# Altium footprint library Logo.PcbLib: 45 footprints (part 2 of 3)
Each footprint in its own frame and in the unit in brackets; x right, y up, seen from the top. Pads: shape width x height; smd on the part's side, far side on the other; paste and mask are expansions set on the pad; w line width, h text height; cw(c..) or ccw(c..) is an arc to the next point about the centre after c.
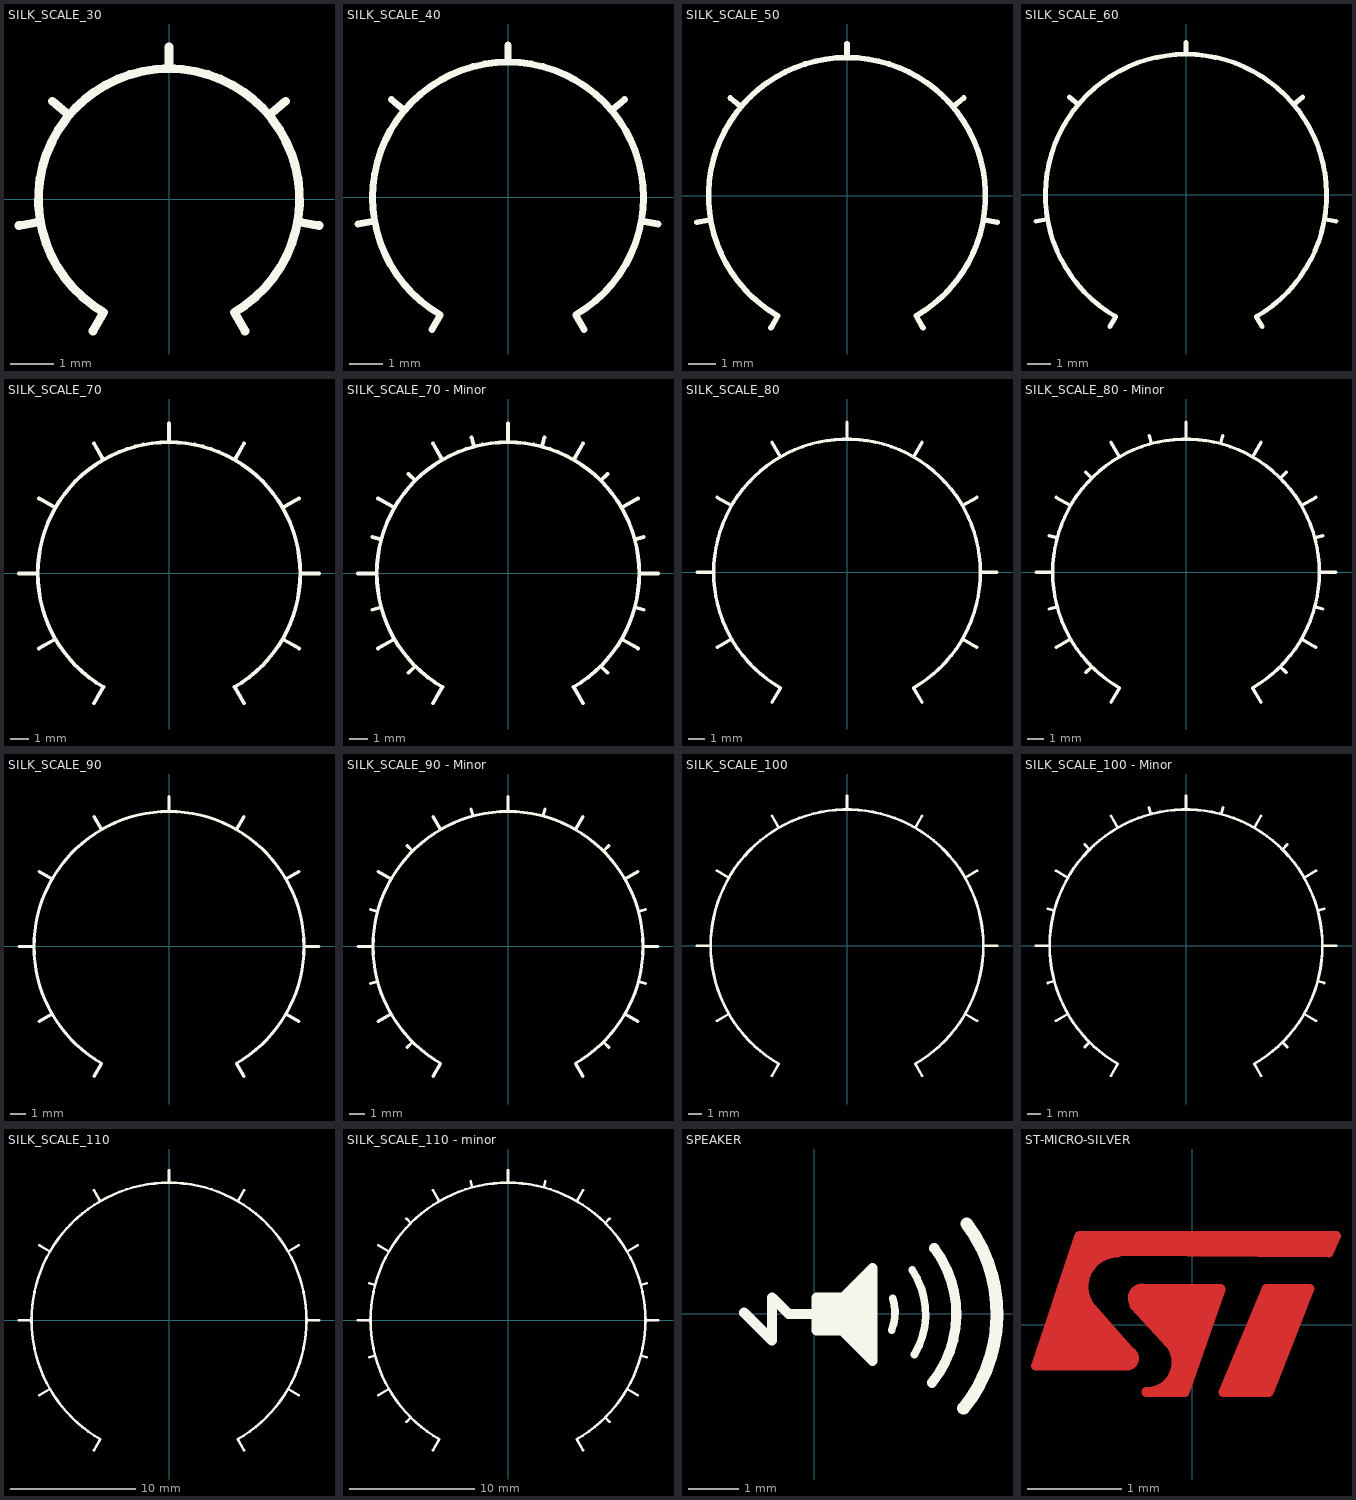
[diagram p1: the footprints below, top view; thin cyan lines are the x and y axes]

## SILK_SCALE_30 [mil]
Top Overlay:
  lines w8: -135.7,-23.93 -116.32,-20.51 ; -105.56,88.57 -90.48,75.92 ; -68.9,-119.33 -59.06,-102.29 cw(c0,0) 59.06,-102.29 68.9,-119.33 ; 0,118.11 0,137.8 ; 90.48,75.92 105.56,88.57 ; 116.32,-20.51 135.7,-23.93

## SILK_SCALE_40 [mil]
Top Overlay:
  lines w8: -174.47,-30.76 -155.09,-27.35 ; -135.72,113.88 -120.64,101.23 ; -88.58,-153.43 -78.74,-136.38 cw(c0,0) 78.74,-136.38 88.58,-153.43 ; 0,157.48 0,177.17 ; 120.64,101.23 135.72,113.88 ; 155.09,-27.35 174.47,-30.76

## SILK_SCALE_50 [mil]
Top Overlay:
  lines w8: -213.25,-37.6 -193.86,-34.18 ; -165.88,139.19 -150.8,126.53 ; -108.27,-187.53 -98.43,-170.48 cw(c0,0) 98.43,-170.48 108.27,-187.53 ; 0,196.85 0,216.54 ; 150.8,126.53 165.88,139.19 ; 193.86,-34.18 213.25,-37.6

## SILK_SCALE_60 [mil]
Top Overlay:
  lines w8: -252.02,-44.44 -232.63,-41.02 ; -196.03,164.49 -180.96,151.84 ; -127.95,-221.62 -118.11,-204.57 cw(c0,0) 118.11,-204.57 127.95,-221.62 ; 0,236.22 0,255.91 ; 180.96,151.84 196.03,164.49 ; 232.63,-41.02 252.02,-44.44

## SILK_SCALE_70 [mil]
Top Overlay:
  lines w8: -314.96,0 -275.59,0 ; -272.76,-157.48 -238.67,-137.8 ; -272.76,157.48 -238.67,137.8 ; -157.48,-272.76 -137.8,-238.67 cw(c0,0) 137.8,-238.67 157.48,-272.76 ; -157.48,272.76 -137.8,238.67 ; 0,275.59 0,314.96 ; 137.8,238.67 157.48,272.76 ; 238.67,-137.8 272.76,-157.48 ; 238.67,137.8 272.76,157.48 ; 275.59,0 314.96,0

## SILK_SCALE_70 - Minor [mil]
Top Overlay:
  lines w8: -314.96,0 -275.59,0 ; -285.21,-76.42 -266.2,-71.33 ; -285.21,76.42 -266.2,71.33 ; -272.76,-157.48 -238.67,-137.8 ; -272.76,157.48 -238.67,137.8 ; -208.79,-208.79 -194.87,-194.87 ; -208.79,208.79 -194.87,194.87 ; -157.48,-272.76 -137.8,-238.67 cw(c0,0) 137.8,-238.67 157.48,-272.76 ; -157.48,272.76 -137.8,238.67 ; -76.42,285.21 -71.33,266.2 ; 0,275.59 0,314.96 ; 71.33,266.2 76.42,285.21 ; 137.8,238.67 157.48,272.76 ; 194.87,-194.87 208.79,-208.79 ; 194.87,194.87 208.79,208.79 ; 238.67,-137.8 272.76,-157.48 ; 238.67,137.8 272.76,157.48 ; 266.2,-71.33 285.21,-76.42 ; 266.2,71.33 285.21,76.42 ; 275.59,0 314.96,0

## SILK_SCALE_80 [mil]
Top Overlay:
  lines w8: -354.33,0 -314.96,0 ; -306.86,-177.17 -272.76,-157.48 ; -306.86,177.17 -272.76,157.48 ; -177.17,-306.86 -157.48,-272.76 cw(c0,0) 157.48,-272.76 177.17,-306.86 ; -177.17,306.86 -157.48,272.76 ; 0,314.96 0,354.33 ; 157.48,272.76 177.17,306.86 ; 272.76,-157.48 306.86,-177.17 ; 272.76,157.48 306.86,177.17 ; 314.96,0 354.33,0

## SILK_SCALE_80 - Minor [mil]
Top Overlay:
  lines w8: -354.33,0 -314.96,0 ; -323.24,-86.61 -304.23,-81.52 ; -323.24,86.61 -304.23,81.52 ; -306.86,-177.17 -272.76,-157.48 ; -306.86,177.17 -272.76,157.48 ; -236.63,-236.63 -222.71,-222.71 ; -236.63,236.63 -222.71,222.71 ; -177.17,-306.86 -157.48,-272.76 cw(c0,0) 157.48,-272.76 177.17,-306.86 ; -177.17,306.86 -157.48,272.76 ; -86.61,323.24 -81.52,304.23 ; 0,314.96 0,354.33 ; 81.52,304.23 86.61,323.24 ; 157.48,272.76 177.17,306.86 ; 222.71,-222.71 236.63,-236.63 ; 222.71,222.71 236.63,236.63 ; 272.76,-157.48 306.86,-177.17 ; 272.76,157.48 306.86,177.17 ; 304.23,-81.52 323.24,-86.61 ; 304.23,81.52 323.24,86.61 ; 314.96,0 354.33,0

## SILK_SCALE_90 [mil]
Top Overlay:
  lines w8: -393.7,0 -354.33,0 ; -340.95,-196.85 -306.86,-177.17 ; -340.95,196.85 -306.86,177.17 ; -196.85,-340.95 -177.17,-306.86 cw(c0,0) 177.17,-306.86 196.85,-340.95 ; -196.85,340.95 -177.17,306.86 ; 0,354.33 0,393.7 ; 177.17,306.86 196.85,340.95 ; 306.86,-177.17 340.95,-196.85 ; 306.86,177.17 340.95,196.85 ; 354.33,0 393.7,0

## SILK_SCALE_90 - Minor [mil]
Top Overlay:
  lines w8: -393.7,0 -354.33,0 ; -361.27,-96.8 -342.26,-91.71 ; -361.27,96.8 -342.26,91.71 ; -340.95,-196.85 -306.86,-177.17 ; -340.95,196.85 -306.86,177.17 ; -264.47,-264.47 -250.55,-250.55 ; -264.47,264.47 -250.55,250.55 ; -196.85,-340.95 -177.17,-306.86 cw(c0,0) 177.17,-306.86 196.85,-340.95 ; -196.85,340.95 -177.17,306.86 ; -96.8,361.27 -91.71,342.26 ; 0,354.33 0,393.7 ; 91.71,342.26 96.8,361.27 ; 177.17,306.86 196.85,340.95 ; 250.55,-250.55 264.47,-264.47 ; 250.55,250.55 264.47,264.47 ; 306.86,-177.17 340.95,-196.85 ; 306.86,177.17 340.95,196.85 ; 342.26,-91.71 361.27,-96.8 ; 342.26,91.71 361.27,96.8 ; 354.33,0 393.7,0

## SILK_SCALE_100 [mil]
Top Overlay:
  lines w8: -433.07,0 -393.7,0 ; -375.05,-216.54 -340.95,-196.85 ; -375.05,216.54 -340.95,196.85 ; -216.54,-375.05 -196.85,-340.95 cw(c0,0) 196.85,-340.95 216.54,-375.05 ; -216.54,375.05 -196.85,340.95 ; 0,393.7 0,433.07 ; 196.85,340.95 216.54,375.05 ; 340.95,-196.85 375.05,-216.54 ; 340.95,196.85 375.05,216.54 ; 393.7,0 433.07,0

## SILK_SCALE_100 - Minor [mil]
Top Overlay:
  lines w8: -433.07,0 -393.7,0 ; -399.3,-106.99 -380.29,-101.9 ; -399.3,106.99 -380.29,101.9 ; -375.05,-216.54 -340.95,-196.85 ; -375.05,216.54 -340.95,196.85 ; -292.31,-292.31 -278.39,-278.39 ; -292.31,292.31 -278.39,278.39 ; -216.54,-375.05 -196.85,-340.95 cw(c0,0) 196.85,-340.95 216.54,-375.05 ; -216.54,375.05 -196.85,340.95 ; -106.99,399.3 -101.9,380.29 ; 0,393.7 0,433.07 ; 101.9,380.29 106.99,399.3 ; 196.85,340.95 216.54,375.05 ; 278.39,-278.39 292.31,-292.31 ; 278.39,278.39 292.31,292.31 ; 340.95,-196.85 375.05,-216.54 ; 340.95,196.85 375.05,216.54 ; 380.29,-101.9 399.3,-106.99 ; 380.29,101.9 399.3,106.99 ; 393.7,0 433.07,0

## SILK_SCALE_110 [mil]
Top Overlay:
  lines w8: -472.44,0 -433.07,0 ; -409.15,-236.22 -375.05,-216.54 ; -409.15,236.22 -375.05,216.54 ; -236.22,-409.15 -216.54,-375.05 cw(c0,0) 216.54,-375.05 236.22,-409.15 ; -236.22,409.15 -216.54,375.05 ; 0,433.07 0,472.44 ; 216.54,375.05 236.22,409.15 ; 375.05,-216.54 409.15,-236.22 ; 375.05,216.54 409.15,236.22 ; 433.07,0 472.44,0

## SILK_SCALE_110 - minor [mil]
Top Overlay:
  lines w8: -472.44,0 -433.07,0 ; -437.33,-117.18 -418.31,-112.09 ; -437.33,117.18 -418.31,112.09 ; -409.15,-236.22 -375.05,-216.54 ; -409.15,236.22 -375.05,216.54 ; -320.15,-320.15 -306.23,-306.23 ; -320.15,320.15 -306.23,306.23 ; -236.22,-409.15 -216.54,-375.05 cw(c0,0) 216.54,-375.05 236.22,-409.15 ; -236.22,409.15 -216.54,375.05 ; -117.18,437.33 -112.09,418.31 ; 0,433.07 0,472.44 ; 112.09,418.31 117.18,437.33 ; 216.54,375.05 236.22,409.15 ; 306.23,-306.23 320.15,-320.15 ; 306.23,306.23 320.15,320.15 ; 375.05,-216.54 409.15,-236.22 ; 375.05,216.54 409.15,236.22 ; 418.31,-112.09 437.33,-117.18 ; 418.31,112.09 437.33,117.18 ; 433.07,0 472.44,0

## SPEAKER [mil]
Top Overlay:
  lines w6: 61.09,-12.77 ccw(c27,1) 61.97,12.36 ; 77.33,34.62 cw(c26,0) 79.07,-31.89
  lines w8: -55,1 -33,-21 -33,13 -20,0 0,0 ; 4,-7 20,-7 ; 4,-1 22,-1 ; 4,6 26,6 ; 20,-13 2,-13 2,13 22,13 22,-13 46,-37 46,36 22,12 ; 36,-17 36,17 ; 38,-20 29,-11 29,11 42,24 42,-26 ; 92.88,-54.15 ccw(c26,0) 94.72,51.79
  lines w10: 117.77,-74.34 ccw(c25.98,-0.02) 120.31,71.07

## ST-MICRO-SILVER [mil]
Top Layer:
  lines w4: -42,7 -25,-12 ; -41.32,6.15 cw(c-31,15.84) -31,30 ; -31.56,30.58 57,30 60,37 -47,37 -65,-17 -27,-17 ccw(c-27.07,-14) -25.4,-11.5 ; -24,8 -9.25,-7.75 ; -23,8 cw(c-20.84,11.23) -20.84,15.12 ; -21,15 12,15 -3,-28 -19,-28 ; -18.99,-27.97 ccw(c-18.87,-15.57) -11,-6 ; 13,-28 31,15 49,15 32,-28 13,-28
  lines w6: -48,-4 -44,-6 -52,-7 -49,4 -35,-10 -58,-11 -43,31 -38,31 -41,31 -47,20 -48,9 -27,-14 -62,-14 -45,34 57,33 ; -19,11 7,11 -6,-25 -4,-12 -22,11 2,6 -4,-6 -14,6 -3,2 -3,1 ; 32,12 45,12 30,-25 18,-25 31,7 39,7 27,-21 23,-21 34,4
Top Solder:
  lines w4: -42,7 -25,-12 ; -41.32,6.15 cw(c-31,15.84) -31,30 ; -31.56,30.58 57,30 60,37 -47,37 -65,-17 -27,-17 ccw(c-27.07,-14) -25.4,-11.5 ; -24,8 -9.25,-7.75 ; -23,8 cw(c-20.84,11.23) -20.84,15.12 ; -21,15 12,15 -3,-28 -19,-28 ; -18.99,-27.97 ccw(c-18.87,-15.57) -11,-6 ; 13,-28 32,-28 49,15 31,15 13,-28
  lines w6: -48,-4 -44,-6 -52,-7 -49,4 -35,-10 -58,-11 -43,31 -38,31 -41,31 -47,20 -48,9 -27,-14 -62,-14 -45,34 57,33 ; -19,11 7,11 -6,-25 -4,-12 -22,11 2,6 -4,-6 -14,6 -3,2 -3,1 ; 32,12 45,12 30,-25 18,-25 31,7 39,7 27,-21 23,-21 34,4